# Altium integrated library ATSAMD21J18A-AU.IntLib: 2 symbols
Pins are listed as number, name and electrical type; pins without a type are passive.

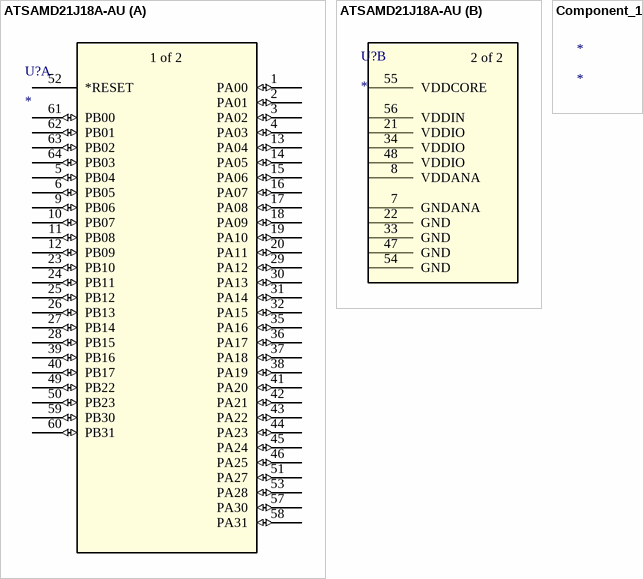
[diagram p0: symbols ATSAMD21J18A-AU to Component_1]

## ATSAMD21J18A-AU
designator U?
No Description Available; Mfr_Name: Microchip; RefDes: RefDes; Type: Type
footprint TQFP64_10x10MC_MCH
part A pins: 1 PA00 (io), 2 PA01 (io), 3 PA02 (io), 4 PA03 (io), 5 PB04 (io), 6 PB05 (io), 9 PB06 (io), 10 PB07 (io), 11 PB08 (io), 12 PB09 (io), 13 PA04 (io), 14 PA05 (io), 15 PA06 (io), 16 PA07 (io), 17 PA08 (io), 18 PA09 (io), 19 PA10 (io), 20 PA11 (io), 23 PB10 (io), 24 PB11 (io), 25 PB12 (io), 26 PB13 (io), 27 PB14 (io), 28 PB15 (io), 29 PA12 (io), 30 PA13 (io), 31 PA14 (io), 32 PA15 (io), 35 PA16 (io), 36 PA17 (io), 37 PA18 (io), 38 PA19 (io), 39 PB16 (io), 40 PB17 (io), 41 PA20 (io), 42 PA21 (io), 43 PA22 (io), 44 PA23 (io), 45 PA24 (io), 46 PA25 (io), 49 PB22 (io), 50 PB23 (io), 51 PA27 (io), 52 *RESET, 53 PA28 (io), 57 PA30 (io), 58 PA31 (io), 59 PB30 (io), 60 PB31 (io), 61 PB00 (io), 62 PB01 (io), 63 PB02 (io), 64 PB03 (io)
part B pins: 7 GNDANA (power), 8 VDDANA (power), 21 VDDIO (power), 22 GND (power), 33 GND (power), 34 VDDIO (power), 47 GND (power), 48 VDDIO (power), 54 GND (power), 55 VDDCORE (power), 56 VDDIN (power)
part A text: 1 of 2
part B text: 2 of 2

## Component_1
designator *